# Altium schematic symbol library SiSS67DN.Schlib: 1 symbol
Pins are listed as number, name and electrical type; pins without a type are passive.

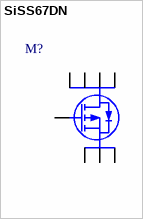
[diagram p0: symbol SiSS67DN]

## SiSS67DN
designator M?
30V 60A P-Channel
pins: 1 S, 2 S, 3 S, 4 G, 5 D, 6 D, 7 D, 8 D